# EAGLE library part TP4056 (library Cing Library)
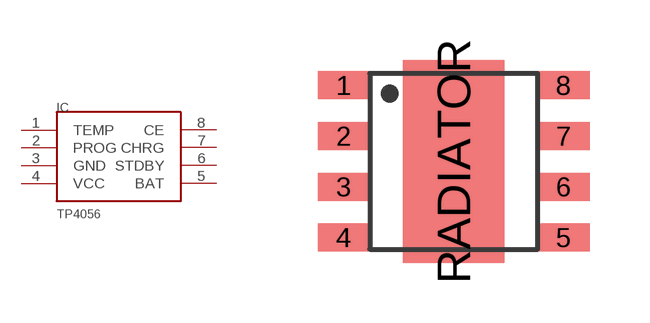
[diagram p12: symbol with the pads of TP4056; footprint TP4056]

Designator prefix IC

## TP4056  [TP4056]
1  TEMP
2  PROG
3  GND
4  VCC
5  BAT
6  STDBY
7  CHRG
8  CE

## Footprint TP4056 (pad centres in mm)
smd 1.3 x 0.7: 1 -2.75,1.905; 2 -2.75,0.635; 3 -2.75,-0.635; 4 -2.75,-1.905; 5 2.75,-1.905; 6 2.75,-0.635; 7 2.75,0.635; 8 2.75,1.905
smd 2.54 x 5.08: RADIATOR 0,0